# EAGLE library part LM2623 (library rocket)
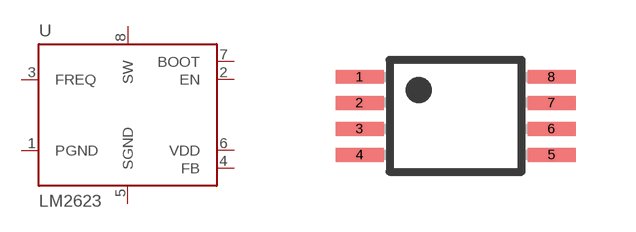
[diagram p6: symbol with the pads of TSSOP8-3MM; footprint TSSOP8-3MM]

Designator prefix -

## LM2623  [TSSOP8-3MM]
1  PGND
2  EN
3  FREQ
4  FB
5  SGND
6  VDD
7  BOOT
8  SW

## Footprint TSSOP8-3MM (pad centres in mm)
smd 1.2 x 0.35: 1 -2.4,0.975; 2 -2.4,0.325; 3 -2.4,-0.325; 4 -2.4,-0.975; 5 2.4,-0.975; 6 2.4,-0.325; 7 2.4,0.325; 8 2.4,0.975